# Altium schematic symbol library boards.SchLib: 2 symbols
Pins are listed as number, name and electrical type; pins without a type are passive.

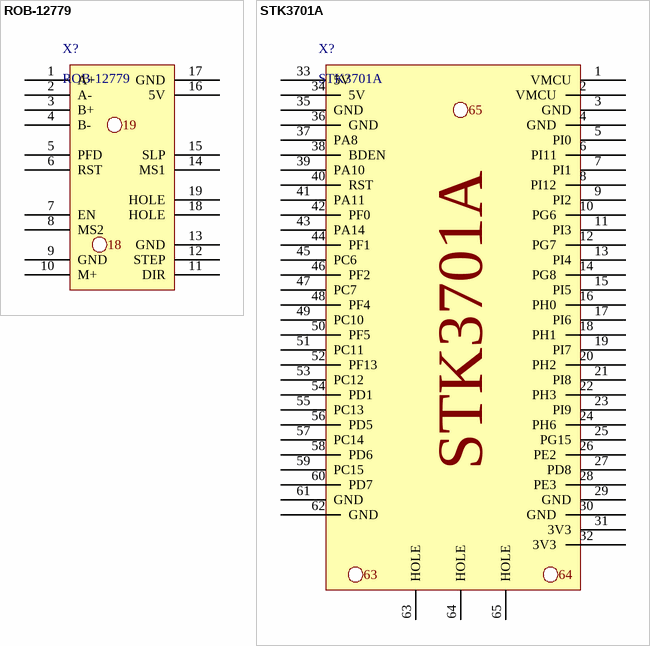
[diagram p0: symbols ROB-12779 to STK3701A]

## ROB-12779
designator X?
footprint ROB-12779 (EasyDriver - Stepper Motor Driver)
pins: 1 A+, 2 A-, 3 B+, 4 B-, 5 PFD, 6 RST, 7 EN, 8 MS2, 9 GND, 10 M+, 11 DIR, 12 STEP, 13 GND, 14 MS1, 15 SLP, 16 5V, 17 GND, 18 HOLE, 19 HOLE

## STK3701A
designator X?
footprint STK3701A
pins: 1 VMCU, 2 VMCU, 3 GND, 4 GND, 5 PI0, 6 PI11, 7 PI1, 8 PI12, 9 PI2, 10 PG6, 11 PI3, 12 PG7, 13 PI4, 14 PG8, 15 PI5, 16 PH0, 17 PI6, 18 PH1, 19 PI7, 20 PH2, 21 PI8, 22 PH3, 23 PI9, 24 PH6, 25 PG15, 26 PE2, 27 PD8, 28 PE3, 29 GND, 30 GND, 31 3V3, 32 3V3, 33 5V, 34 5V, 35 GND, 36 GND, 37 PA8, 38 BDEN, 39 PA10, 40 RST, 41 PA11, 42 PF0, 43 PA14, 44 PF1, 45 PC6, 46 PF2, 47 PC7, 48 PF4, 49 PC10, 50 PF5, 51 PC11, 52 PF13, 53 PC12, 54 PD1, 55 PC13, 56 PD5, 57 PC14, 58 PD6, 59 PC15, 60 PD7, 61 GND, 62 GND, 63 HOLE, 64 HOLE, 65 HOLE